# EAGLE library part ATTINY84A-MMH (library PiezoFFC)
MCU, 8BIT, AVR, 8K FLASH,
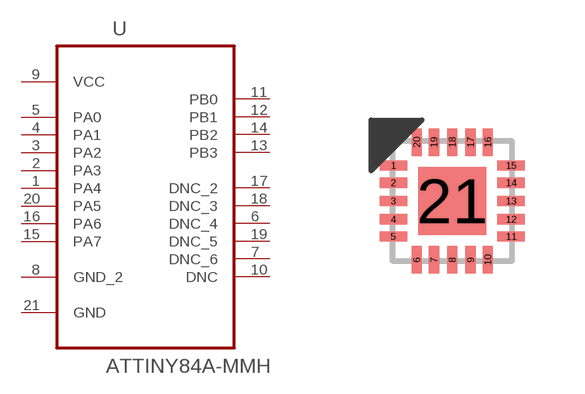
[diagram p12: symbol with the pads of QFN45P300X300X85-21N; footprint QFN45P300X300X85-21N]

Designator prefix U

## ATTINY84A-MMH (MPN: ATTINY84A-MMH; OC_FARNELL: 1972168; OC_NEWARK: 68T3788; PACKAGE: 20-VQFN; SUPPLIER: ATMEL)  [QFN45P300X300X85-21N]
1  PA4
2  PA3
3  PA2
4  PA1
5  PA0
6  DNC_4  nc
7  DNC_6  nc
8  GND_2  pwr
9  VCC  pwr
10  DNC  nc
11  PB0
12  PB1
13  PB3
14  PB2
15  PA7
16  PA6
17  DNC_2  nc
18  DNC_3  nc
19  DNC_5  nc
20  PA5
21  GND  pwr

## Footprint QFN45P300X300X85-21N (pad centres in mm)
smd 0.686 x 0.254: 1 -1.473,0.889; 2 -1.473,0.457; 3 -1.473,0; 4 -1.473,-0.457; 5 -1.473,-0.889; 11 1.473,-0.889; 12 1.473,-0.457; 13 1.473,0; 14 1.473,0.457; 15 1.473,0.889
smd 0.254 x 0.686: 6 -0.889,-1.473; 7 -0.457,-1.473; 8 0,-1.473; 9 0.457,-1.473; 10 0.889,-1.473; 16 0.889,1.473; 17 0.457,1.473; 18 0,1.473; 19 -0.457,1.473; 20 -0.889,1.473
smd 1.702 x 1.702: 21 0,0